# EAGLE library part NC7WZ04 (library Dual_Inverter_NC7WZ04)
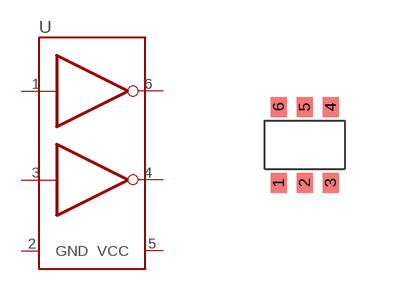
[diagram p0: symbol with the pads of SC70; footprint SC70]

Designator prefix -

## NC7WZ04  [SC70]
1  IN1  in
2  GND
3  IN2  in
4  OUT2  out
5  VCC
6  OUT1  out

## Footprint SC70 (pad centres in mm)
smd 0.4 x 0.5: 1 0,0; 2 0.65,0; 3 1.3,0; 4 1.3,1.9; 5 0.65,1.9; 6 0,1.9